# Altium schematic symbol library zennor.SchLib: 1 symbol
Pins are listed as number, name and electrical type; pins without a type are passive.

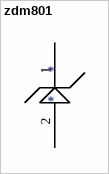
[diagram p0: symbol zdm801]

## zdm801
designator *
footprint PCBComponent_1
pins: 1, 2